# EAGLE library part MPU9150 (library apro)
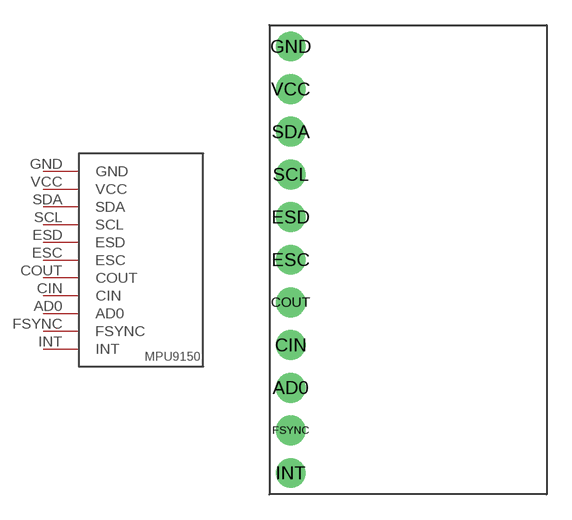
[diagram p4: symbol with the pads of MPU9150; footprint MPU9150]

Designator prefix -

## MPU9150  [MPU9150]
AD0  AD0
CIN  CIN
COUT  COUT
ESC  ESC
ESD  ESD
FSYNC  FSYNC
GND  GND
INT  INT
SCL  SCL
SDA  SDA
VCC  VCC

## Footprint MPU9150 (pad centres in mm)
drill 1 pad 1.778: AD0 -7.62,-7.62; CIN -7.62,-5.08; COUT -7.62,-2.54; ESC -7.62,0; ESD -7.62,2.54; FSYNC -7.62,-10.16; GND -7.62,12.7; INT -7.62,-12.7; SCL -7.62,5.08; SDA -7.62,7.62; VCC -7.62,10.16